# Altium schematic symbol library Dual_N_FET.Schlib: 1 symbol
Pins are listed as number, name and electrical type; pins without a type are passive.

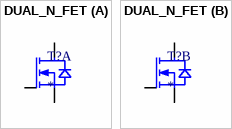
[diagram p0: symbol DUAL_N_FET]

## DUAL_N_FET
designator T?
part A pins: D1, G1, S1
part B pins: D2, G2, S2